# Altium footprint library T491C226M010AT.PcbLib: 3 footprints
Each footprint in its own frame and in the unit in brackets; x right, y up, seen from the top. Pads: shape width x height; smd on the part's side, far side on the other; paste and mask are expansions set on the pad; w line width, h text height; cw(c..) or ccw(c..) is an arc to the next point about the centre after c.
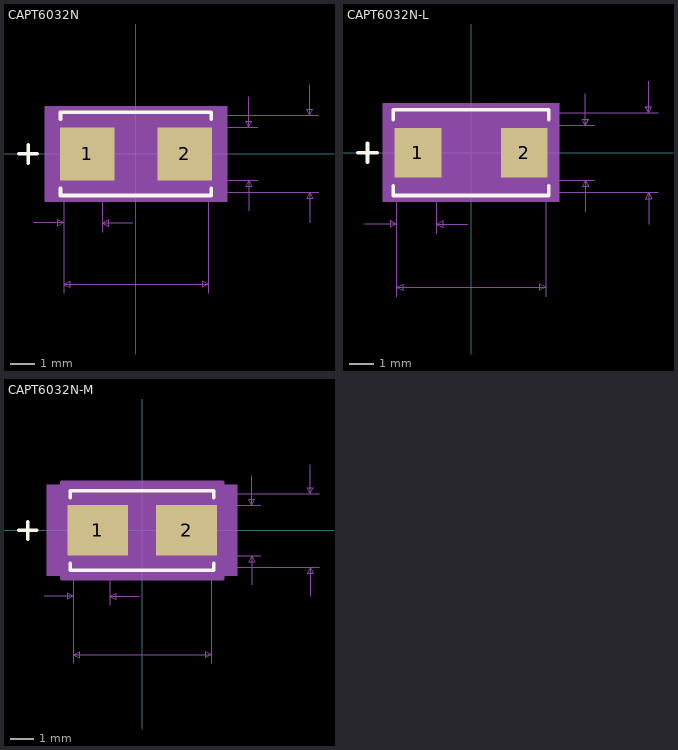
[diagram p0: the footprints below, top view; thin cyan lines are the x and y axes]

## CAPT6032N [mm]
pads (2):
  rect 2.26x2.2 smd: 1(-2.022,0) 2(2.022,0)
Top Overlay:
  lines w0.152: -4.851,0 -4.089,0 ; -4.47,-0.381 -4.47,0.381 ; -3.127,-1.433 -3.127,-1.727 3.127,-1.727 3.127,-1.433 ; -3.127,1.433 -3.127,1.727 3.127,1.727 3.127,1.433
Mechanical 5:
  region: 3.787,-1.981 -3.787,-1.981 -3.787,1.981 3.787,1.981
Mechanical 7:
  lines w0.025: -4.27,-2.87 -3,-2.87 ; -3,-5.791 -3,0 -3,-3.251 ; -1.4,-3.251 -1.4,0 ; -0.13,-2.87 -1.4,-2.87 ; 3,-5.791 3,0 ; 3.406,-1.6 7.597,-1.6 ; 3.406,-1.1 5.057,-1.1 ; 3.406,1.1 5.057,1.1 ; 3.406,1.6 7.597,1.6 ; 4.676,-2.37 4.676,-1.1 ; 4.676,2.37 4.676,1.1 ; 7.216,-2.87 7.216,-1.6 ; 7.216,2.87 7.216,1.6 ; -3,-5.41 3,-5.41 ; -3,-5.41 -2.746,-5.283 -2.746,-5.537 -3,-5.41 ; -3,-2.87 -3.254,-2.743 -3.254,-2.997 -3,-2.87 ; -1.4,-2.87 -1.146,-2.743 -1.146,-2.997 -1.4,-2.87 ; 3,-5.41 2.746,-5.283 2.746,-5.537 3,-5.41 ; 4.676,-1.1 4.549,-1.354 4.803,-1.354 4.676,-1.1 ; 4.676,1.1 4.549,1.354 4.803,1.354 4.676,1.1 ; 7.216,-1.6 7.089,-1.854 7.343,-1.854 7.216,-1.6 ; 7.216,1.6 7.089,1.854 7.343,1.854 7.216,1.6
  text "Default Padstyle: RX88p99Y86p61D0T" at -10.795,-8.585 h1.27
  text "Alt 1 Padstyle: OX60Y90D30P" at -8.572,-10.49 h1.27
  text "Alt 2 Padstyle: OX90Y60D30P" at -8.572,-12.395 h1.27
  text "0.087in/2.2mm" at 5.184,-0.318 h0.64
  text "0.126in/3.2mm" at 7.724,-0.318 h0.64
  text "0.236in/6mm" at -1.746,-6.553 h0.64
  text "0.063in/1.6mm" at -4.264,-4.013 h0.64
Mechanical 13:
  lines w0.025: -4.851,0 -4.089,0 ; -4.47,-0.381 -4.47,0.381 ; -3,-1.6 3,-1.6 3,1.6 -3,1.6 -3,-1.6
Mechanical 15:
  region: -3.254,-1.354 -3.406,-1.354 -3.406,1.354 -3.254,1.354 -3.254,1.854 3.254,1.854 3.254,1.354 3.406,1.354 3.406,-1.354 3.254,-1.354 3.254,-1.854 -3.254,-1.854
  lines w0.152: -3.406,-1.354 -3.406,1.354 -3.254,1.354 -3.254,1.854 3.254,1.854 3.254,1.354 3.406,1.354 3.406,-1.354 3.254,-1.354 3.254,-1.854 -3.254,-1.854 -3.254,-1.354 -3.406,-1.354
3D body: height 0.25, standoff 0, extent 0,0 0.254,0.254

## CAPT6032N-L [mm]
pads (2):
  rect 1.879x1.997 smd paste+0 mask+0: 1(-2.136,0) 2(2.136,0)
Top Overlay:
  lines w0.152: -4.546,0 -3.784,0 ; -4.165,-0.381 -4.165,0.381 ; -3.127,-1.327 -3.127,-1.727 3.127,-1.727 3.127,-1.327 ; -3.127,1.327 -3.127,1.727 3.127,1.727 3.127,1.327
Mechanical 5:
  region: 3.559,-1.981 -3.559,-1.981 -3.559,1.981 3.559,1.981
Mechanical 7:
  lines w0.025: -4.27,-2.87 -3,-2.87 ; -3,-5.791 -3,0 -3,-3.251 ; -1.4,-3.251 -1.4,0 ; -0.13,-2.87 -1.4,-2.87 ; 3,-5.791 3,0 ; 3.33,-1.6 7.521,-1.6 ; 3.33,-1.1 4.981,-1.1 ; 3.33,1.1 4.981,1.1 ; 3.33,1.6 7.521,1.6 ; 4.6,-2.37 4.6,-1.1 ; 4.6,2.37 4.6,1.1 ; 7.14,-2.87 7.14,-1.6 ; 7.14,2.87 7.14,1.6 ; -3,-5.41 3,-5.41 ; -3,-5.41 -2.746,-5.283 -2.746,-5.537 -3,-5.41 ; -3,-2.87 -3.254,-2.743 -3.254,-2.997 -3,-2.87 ; -1.4,-2.87 -1.146,-2.743 -1.146,-2.997 -1.4,-2.87 ; 3,-5.41 2.746,-5.283 2.746,-5.537 3,-5.41 ; 4.6,-1.1 4.473,-1.354 4.727,-1.354 4.6,-1.1 ; 4.6,1.1 4.473,1.354 4.727,1.354 4.6,1.1 ; 7.14,-1.6 7.013,-1.854 7.267,-1.854 7.14,-1.6 ; 7.14,1.6 7.013,1.854 7.267,1.854 7.14,1.6
  text "Default Padstyle: RX73p99Y78p61D0T" at -10.795,-8.585 h1.27
  text "Alt 1 Padstyle: OX60Y90D30P" at -8.572,-10.49 h1.27
  text "Alt 2 Padstyle: OX90Y60D30P" at -8.572,-12.395 h1.27
  text "0.087in/2.2mm" at 5.108,-0.318 h0.64
  text "0.126in/3.2mm" at 7.648,-0.318 h0.64
  text "0.236in/6mm" at -1.746,-6.553 h0.64
  text "0.063in/1.6mm" at -4.264,-4.013 h0.64
Mechanical 13:
  lines w0.025: -4.546,0 -3.784,0 ; -4.165,-0.381 -4.165,0.381 ; -3,-1.6 3,-1.6 3,1.6 -3,1.6 -3,-1.6
Mechanical 15:
  region: -3.102,-1.1 -3.178,-1.1 -3.178,1.1 -3.102,1.1 -3.102,1.702 3.102,1.702 3.102,1.1 3.178,1.1 3.178,-1.1 3.102,-1.1 3.102,-1.702 -3.102,-1.702
  lines w0.152: -3.178,-1.1 -3.178,1.1 -3.102,1.1 -3.102,1.702 3.102,1.702 3.102,1.1 3.178,1.1 3.178,-1.1 3.102,-1.1 3.102,-1.702 -3.102,-1.702 -3.102,-1.1 -3.178,-1.1
3D body: height 0.25, standoff 0, extent 0,0 0.254,0.254

## CAPT6032N-M [mm]
pads (2):
  rect 2.641x2.2 smd paste+0 mask+0: 1(-1.933,0) 2(1.933,0)
Top Overlay:
  lines w0.152: -5.359,0 -4.597,0 ; -4.978,-0.381 -4.978,0.381 ; -3.127,-1.433 -3.127,-1.727 3.127,-1.727 3.127,-1.433 ; -3.127,1.433 -3.127,1.727 3.127,1.727 3.127,1.433
Mechanical 5:
  region: 4.143,-1.981 -4.143,-1.981 -4.143,1.981 4.143,1.981
Mechanical 7:
  lines w0.025: -4.27,-2.87 -3,-2.87 ; -3,-5.791 -3,0 -3,-3.251 ; -1.4,-3.251 -1.4,0 ; -0.13,-2.87 -1.4,-2.87 ; 3,-5.791 3,0 ; 3.508,-1.6 7.699,-1.6 ; 3.508,-1.1 5.159,-1.1 ; 3.508,1.1 5.159,1.1 ; 3.508,1.6 7.699,1.6 ; 4.778,-2.37 4.778,-1.1 ; 4.778,2.37 4.778,1.1 ; 7.318,-2.87 7.318,-1.6 ; 7.318,2.87 7.318,1.6 ; -3,-5.41 3,-5.41 ; -3,-5.41 -2.746,-5.283 -2.746,-5.537 -3,-5.41 ; -3,-2.87 -3.254,-2.743 -3.254,-2.997 -3,-2.87 ; -1.4,-2.87 -1.146,-2.743 -1.146,-2.997 -1.4,-2.87 ; 3,-5.41 2.746,-5.283 2.746,-5.537 3,-5.41 ; 4.778,-1.1 4.651,-1.354 4.905,-1.354 4.778,-1.1 ; 4.778,1.1 4.651,1.354 4.905,1.354 4.778,1.1 ; 7.318,-1.6 7.191,-1.854 7.445,-1.854 7.318,-1.6 ; 7.318,1.6 7.191,1.854 7.445,1.854 7.318,1.6
  text "Default Padstyle: RX103p99Y86p61D0T" at -11.112,-8.585 h1.27
  text "Alt 1 Padstyle: OX60Y90D30P" at -8.572,-10.49 h1.27
  text "Alt 2 Padstyle: OX90Y60D30P" at -8.572,-12.395 h1.27
  text "0.087in/2.2mm" at 5.286,-0.318 h0.64
  text "0.126in/3.2mm" at 7.826,-0.318 h0.64
  text "0.236in/6mm" at -1.746,-6.553 h0.64
  text "0.063in/1.6mm" at -4.264,-4.013 h0.64
Mechanical 13:
  lines w0.025: -5.359,0 -4.597,0 ; -4.978,-0.381 -4.978,0.381 ; -3,-1.6 3,-1.6 3,1.6 -3,1.6 -3,-1.6
Mechanical 15:
  region: -3.508,-1.608 -3.762,-1.608 -3.762,1.608 -3.508,1.608 -3.508,2.108 3.508,2.108 3.508,1.608 3.762,1.608 3.762,-1.608 3.508,-1.608 3.508,-2.108 -3.508,-2.108
  lines w0.152: -3.762,-1.608 -3.762,1.608 -3.508,1.608 -3.508,2.108 3.508,2.108 3.508,1.608 3.762,1.608 3.762,-1.608 3.508,-1.608 3.508,-2.108 -3.508,-2.108 -3.508,-1.608 -3.762,-1.608
3D body: height 0.25, standoff 0, extent 0,0 0.254,0.254